# Altium schematic symbol library FAN73912AMX.SchLib: 1 symbol
Pins are listed as number, name and electrical type; pins without a type are passive.

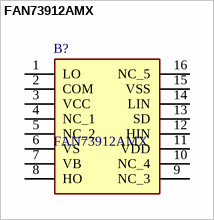
[diagram p0: symbol FAN73912AMX]

## FAN73912AMX
designator B?
Floating Channel for Bootstrap Operation to +1200 V; Typically 2 A/ 3 A Sourcing/Sinking Current Driving Capability for Both Channels; Gate Driver Supply (VCC) Range from 12 V to 20 V; Separate Logic Supply (VDD) Range from 3 V to 20 V; Extended Allowable Negative VS Swing to -9.8 V for Signal Propagation at VCC=VBS=15 V; Built-in Cycle-by-Cycle Edge-Triggered Shutdown Logic; Common-Mode dv/dt Noise Canceling Circuit; UVLO Functions for Both Channels; Built-in Advanced Input Filter; Matched Propagation Dela; Manufacturer_Name: onsemi; Geometry.Height: 2.64mm; Manufacturer_Part_Number: FAN73912AMX; Mouser Part Number: 863-FAN73912AMX; Mouser Price/Stock: https://www.mouser.co.uk/ProductDetail/onsemi/FAN73912AMX?qs=HBWAp0VN4Rig4jonAM17%2Fg%3D%3D; Arrow Part Number: *; Arrow Price/Stock: *; Datasheet Link: https://www.onsemi.com/pub/Collateral/FAN73912A-D.PDF
footprint SOIC127P1032X264-16N
pins: 1 LO, 2 COM, 3 VCC, 4 NC_1, 5 NC_2, 6 VS, 7 VB, 8 HO, 9 NC_3, 10 NC_4, 11 VDD, 12 HIN, 13 SD, 14 LIN, 15 VSS, 16 NC_5